# EAGLE library part MCP1640/B/C/D (library Microchip)
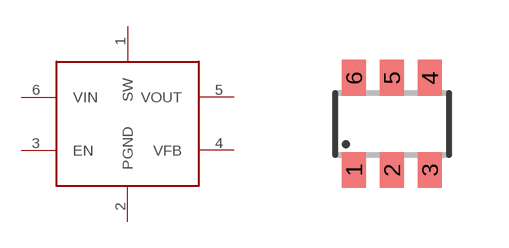
[diagram p2: symbol with the pads of SOT-23-6; footprint SOT-23-6]

Designator prefix -

## MCP1640/B/C/D  [SOT-23-6]
1  SW
2  PGND
3  EN
4  VFB
5  VOUT
6  VIN

## Footprint SOT-23-6 (pad centres in mm)
Small Outline Transistor 6 lead
smd 0.6 x 0.9: 1 -0.95,-1.15; 2 0,-1.15; 3 0.95,-1.15; 4 0.95,1.15; 5 0,1.15; 6 -0.95,1.15